# Altium footprint library MSOP8.PcbLib: 1 footprints
Each footprint in its own frame and in the unit in brackets; x right, y up, seen from the top. Pads: shape width x height; smd on the part's side, far side on the other; paste and mask are expansions set on the pad; w line width, h text height; cw(c..) or ccw(c..) is an arc to the next point about the centre after c.
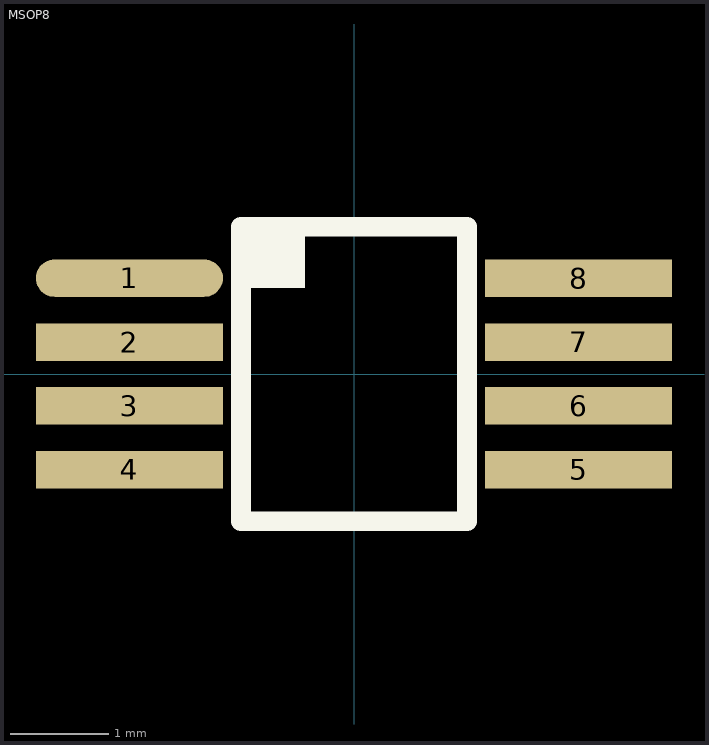
[diagram p0: the footprint, top view; thin cyan lines are the x and y axes]

## MSOP8 [mil]
height 43.31
pads (8):
  oval 75x15 smd: 1(-90,38.4)
  rect 75x15 smd: 2(-90,12.8) 3(-90,-12.8) 4(-90,-38.4) 5(90,-38.4) 6(90,-12.8) 7(90,12.8) 8(90,38.4)
Top Overlay:
  rectangle: -45.28,34.45 -19.68,59.06
  lines w7.87: -45.28,-59.06 45.28,-59.06 45.28,59.06 -45.28,59.06 -45.28,-59.06
3D body: height 36.42, standoff 0, extent -98.43,-59.06 98.43,59.06